# EAGLE library part ADV7800 (library sjg-adv)
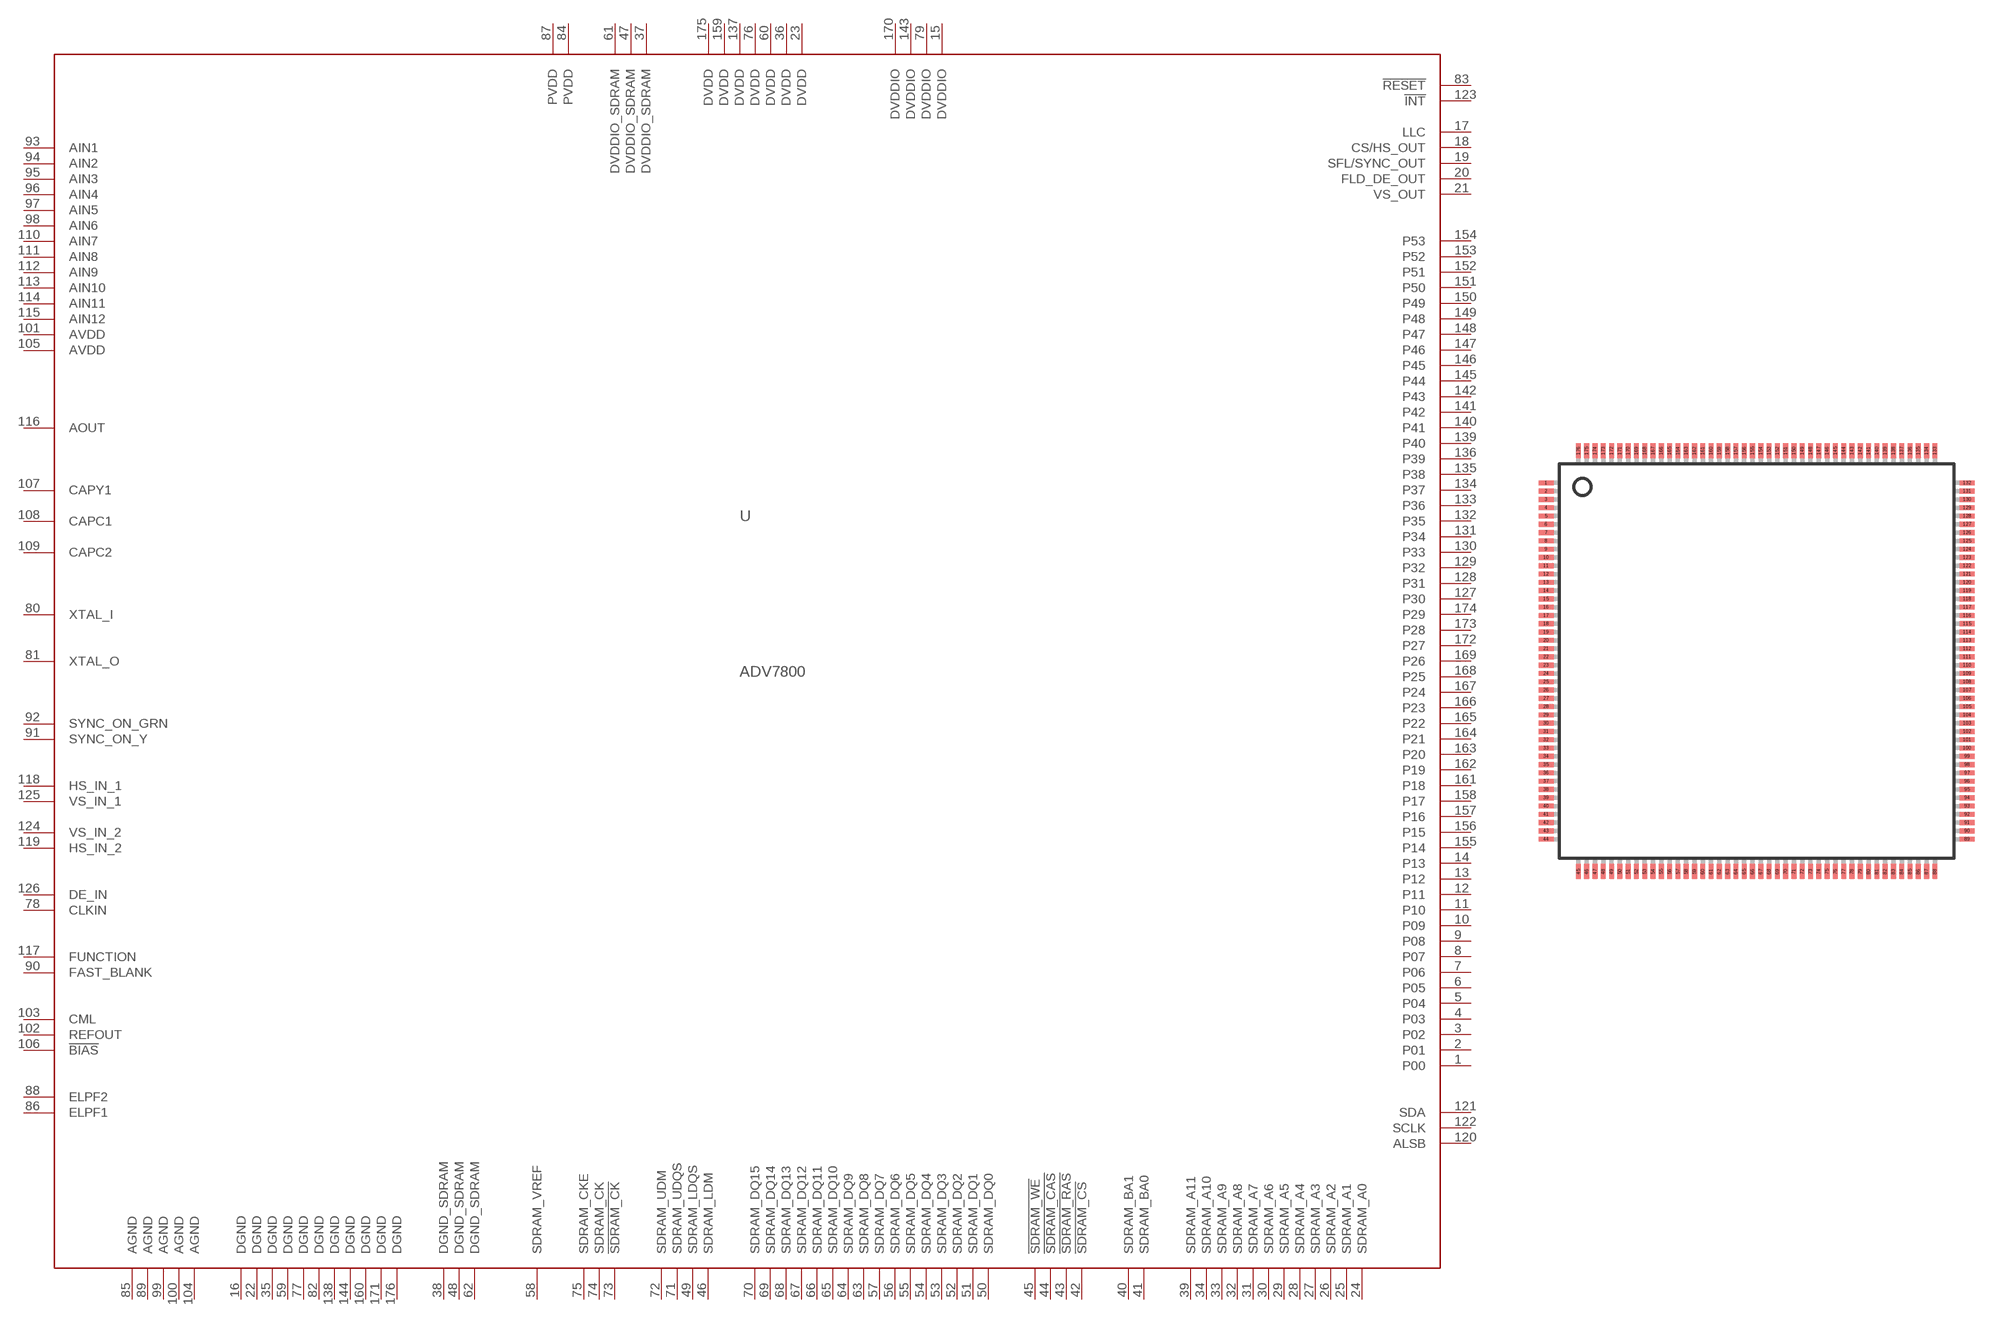
[diagram p1: symbol with the pads of LQFP176-1; footprint LQFP176-1]

Designator prefix -

## ADV7800  [LQFP176-1]
1  P00
2  P01
3  P02
4  P03
5  P04
6  P05
7  P06
8  P07
9  P08
10  P09
11  P10
12  P11
13  P12
14  P13
15  DVDDIO
16  DGND
17  LLC
18  CS/HS_OUT
19  SFL/SYNC_OUT
20  FLD_DE_OUT
21  VS_OUT
22  DGND
23  DVDD
24  SDRAM_A0
25  SDRAM_A1
26  SDRAM_A2
27  SDRAM_A3
28  SDRAM_A4
29  SDRAM_A5
30  SDRAM_A6
31  SDRAM_A7
32  SDRAM_A8
33  SDRAM_A9
34  SDRAM_A10
35  DGND
36  DVDD
37  DVDDIO_SDRAM
38  DGND_SDRAM
39  SDRAM_A11
40  SDRAM_BA1
41  SDRAM_BA0
42  !SDRAM_CS!
43  !SDRAM_RAS!
44  !SDRAM_CAS!
45  !SDRAM_WE!
46  SDRAM_LDM
47  DVDDIO_SDRAM
48  DGND_SDRAM
49  SDRAM_LDQS
50  SDRAM_DQ0
51  SDRAM_DQ1
52  SDRAM_DQ2
53  SDRAM_DQ3
54  SDRAM_DQ4
55  SDRAM_DQ5
56  SDRAM_DQ6
57  SDRAM_DQ7
58  SDRAM_VREF
59  DGND
60  DVDD
61  DVDDIO_SDRAM
62  DGND_SDRAM
63  SDRAM_DQ8
64  SDRAM_DQ9
65  SDRAM_DQ10
66  SDRAM_DQ11
67  SDRAM_DQ12
68  SDRAM_DQ13
69  SDRAM_DQ14
70  SDRAM_DQ15
71  SDRAM_UDQS
72  SDRAM_UDM
73  !SDRAM_CK!
74  SDRAM_CK
75  SDRAM_CKE
76  DVDD
77  DGND
78  CLKIN
79  DVDDIO
80  XTAL_I
81  XTAL_O
82  DGND
83  !RESET!
84  PVDD
85  AGND
86  ELPF1
87  PVDD
88  ELPF2
89  AGND
90  FAST_BLANK
91  SYNC_ON_Y
92  SYNC_ON_GRN
93  AIN1
94  AIN2
95  AIN3
96  AIN4
97  AIN5
98  AIN6
99  AGND
100  AGND
101  AVDD
102  REFOUT
103  CML
104  AGND
105  AVDD
106  !BIAS!
107  CAPY1
108  CAPC1
109  CAPC2
110  AIN7
111  AIN8
112  AIN9
113  AIN10
114  AIN11
115  AIN12
116  AOUT
117  FUNCTION
118  HS_IN_1
119  HS_IN_2
120  ALSB
121  SDA
122  SCLK
123  !INT!
124  VS_IN_2
125  VS_IN_1
126  DE_IN
127  P30
128  P31
129  P32
130  P33
131  P34
132  P35
133  P36
134  P37
135  P38
136  P39
137  DVDD
138  DGND
139  P40
140  P41
141  P42
142  P43
143  DVDDIO
144  DGND
145  P44
146  P45
147  P46
148  P47
149  P48
150  P49
151  P50
152  P51
153  P52
154  P53
155  P14
156  P15
157  P16
158  P17
159  DVDD
160  DGND
161  P18
162  P19
163  P20
164  P21
165  P22
166  P23
167  P24
168  P25
169  P26
170  DVDDIO
171  DGND
172  P27
173  P28
174  P29
175  DVDD
176  DGND

## Footprint LQFP176-1 (pad centres in mm)
176-Lead Metric Thin Plastic Quad Flatpack Source: www.analog.com .. 144127970ADSP_BF531_2_3_a.pdf
smd 0.9 x 0.3: 1 -12.7,10.75; 2 -12.7,10.25; 3 -12.7,9.75; 4 -12.7,9.25; 5 -12.7,8.75; 6 -12.7,8.25; 7 -12.7,7.75; 8 -12.7,7.25; 9 -12.7,6.75; 10 -12.7,6.25; 11 -12.7,5.75; 12 -12.7,5.25; 13 -12.7,4.75; 14 -12.7,4.25; 15 -12.7,3.75; 16 -12.7,3.25; 17 -12.7,2.75; 18 -12.7,2.25; 19 -12.7,1.75; 20 -12.7,1.25; 21 -12.7,0.75; 22 -12.7,0.25; 23 -12.7,-0.25; 24 -12.7,-0.75; 25 -12.7,-1.25; 26 -12.7,-1.75; 27 -12.7,-2.25; 28 -12.7,-2.75; 29 -12.7,-3.25; 30 -12.7,-3.75; 31 -12.7,-4.25; 32 -12.7,-4.75; 33 -12.7,-5.25; 34 -12.7,-5.75; 35 -12.7,-6.25; 36 -12.7,-6.75; 37 -12.7,-7.25; 38 -12.7,-7.75; 39 -12.7,-8.25; 40 -12.7,-8.75; 41 -12.7,-9.25; 42 -12.7,-9.75; 43 -12.7,-10.25; 44 -12.7,-10.75; 89 12.7,-10.75; 90 12.7,-10.25; 91 12.7,-9.75; 92 12.7,-9.25; 93 12.7,-8.75; 94 12.7,-8.25; 95 12.7,-7.75; 96 12.7,-7.25; 97 12.7,-6.75; 98 12.7,-6.25; 99 12.7,-5.75; 100 12.7,-5.25; 101 12.7,-4.75; 102 12.7,-4.25; 103 12.7,-3.75; 104 12.7,-3.25; 105 12.7,-2.75; 106 12.7,-2.25; 107 12.7,-1.75; 108 12.7,-1.25; 109 12.7,-0.75; 110 12.7,-0.25; 111 12.7,0.25; 112 12.7,0.75; 113 12.7,1.25; 114 12.7,1.75; 115 12.7,2.25; 116 12.7,2.75; 117 12.7,3.25; 118 12.7,3.75; 119 12.7,4.25; 120 12.7,4.75; 121 12.7,5.25; 122 12.7,5.75; 123 12.7,6.25; 124 12.7,6.75; 125 12.7,7.25; 126 12.7,7.75; 127 12.7,8.25; 128 12.7,8.75; 129 12.7,9.25; 130 12.7,9.75; 131 12.7,10.25; 132 12.7,10.75
smd 0.3 x 0.9: 45 -10.75,-12.7; 46 -10.25,-12.7; 47 -9.75,-12.7; 48 -9.25,-12.7; 49 -8.75,-12.7; 50 -8.25,-12.7; 51 -7.75,-12.7; 52 -7.25,-12.7; 53 -6.75,-12.7; 54 -6.25,-12.7; 55 -5.75,-12.7; 56 -5.25,-12.7; 57 -4.75,-12.7; 58 -4.25,-12.7; 59 -3.75,-12.7; 60 -3.25,-12.7; 61 -2.75,-12.7; 62 -2.25,-12.7; 63 -1.75,-12.7; 64 -1.25,-12.7; 65 -0.75,-12.7; 66 -0.25,-12.7; 67 0.25,-12.7; 68 0.75,-12.7; 69 1.25,-12.7; 70 1.75,-12.7; 71 2.25,-12.7; 72 2.75,-12.7; 73 3.25,-12.7; 74 3.75,-12.7; 75 4.25,-12.7; 76 4.75,-12.7; 77 5.25,-12.7; 78 5.75,-12.7; 79 6.25,-12.7; 80 6.75,-12.7; 81 7.25,-12.7; 82 7.75,-12.7; 83 8.25,-12.7; 84 8.75,-12.7; 85 9.25,-12.7; 86 9.75,-12.7; 87 10.25,-12.7; 88 10.75,-12.7; 133 10.75,12.7; 134 10.25,12.7; 135 9.75,12.7; 136 9.25,12.7; 137 8.75,12.7; 138 8.25,12.7; 139 7.75,12.7; 140 7.25,12.7; 141 6.75,12.7; 142 6.25,12.7; 143 5.75,12.7; 144 5.25,12.7; 145 4.75,12.7; 146 4.25,12.7; 147 3.75,12.7; 148 3.25,12.7; 149 2.75,12.7; 150 2.25,12.7; 151 1.75,12.7; 152 1.25,12.7; 153 0.75,12.7; 154 0.25,12.7; 155 -0.25,12.7; 156 -0.75,12.7; 157 -1.25,12.7; 158 -1.75,12.7; 159 -2.25,12.7; 160 -2.75,12.7; 161 -3.25,12.7; 162 -3.75,12.7; 163 -4.25,12.7; 164 -4.75,12.7; 165 -5.25,12.7; 166 -5.75,12.7; 167 -6.25,12.7; 168 -6.75,12.7; 169 -7.25,12.7; 170 -7.75,12.7; 171 -8.25,12.7; 172 -8.75,12.7; 173 -9.25,12.7; 174 -9.75,12.7; 175 -10.25,12.7; 176 -10.75,12.7